# EAGLE library part GND32 (library macros)
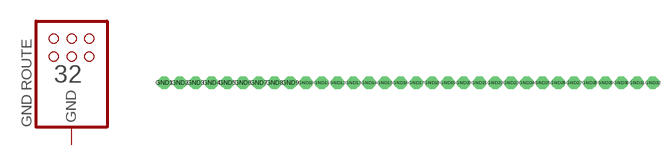
[diagram p10: symbol with the pads of GND32; footprint GND32]

Designator prefix $

## GND32  [GND32]
GND1  GND  pwr
GND2  GND  pwr
GND3  GND  pwr
GND4  GND  pwr
GND5  GND  pwr
GND6  GND  pwr
GND7  GND  pwr
GND8  GND  pwr
GND9  GND  pwr
GND10  GND  pwr
GND11  GND  pwr
GND12  GND  pwr
GND13  GND  pwr
GND14  GND  pwr
GND15  GND  pwr
GND16  GND  pwr
GND17  GND  pwr
GND18  GND  pwr
GND19  GND  pwr
GND20  GND  pwr
GND21  GND  pwr
GND22  GND  pwr
GND23  GND  pwr
GND24  GND  pwr
GND25  GND  pwr
GND26  GND  pwr
GND27  GND  pwr
GND28  GND  pwr
GND29  GND  pwr
GND30  GND  pwr
GND31  GND  pwr
GND32  GND  pwr

## Footprint GND32 (pad centres in mm)
drill 0.813 pad 2.032 octagon: GND1 0,0; GND2 2.54,0; GND3 5.08,0; GND4 7.62,0; GND5 10.16,0; GND6 12.7,0; GND7 15.24,0; GND8 17.78,0; GND9 20.32,0; GND10 22.86,0; GND11 25.4,0; GND12 27.94,0; GND13 30.48,0; GND14 33.02,0; GND15 35.56,0; GND16 38.1,0; GND17 40.64,0; GND18 43.18,0; GND19 45.72,0; GND20 48.26,0; GND21 50.8,0; GND22 53.34,0; GND23 55.88,0; GND24 58.42,0; GND25 60.96,0; GND26 63.5,0; GND27 66.04,0; GND28 68.58,0; GND29 71.12,0; GND30 73.66,0; GND31 76.2,0; GND32 78.74,0